# EAGLE library part SFP (library balto)
SFP Cage and Connector
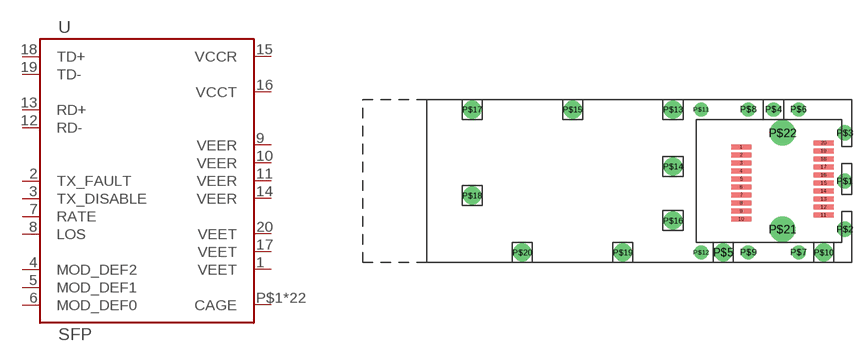
[diagram p38: symbol with the pads of SFP; footprint SFP]

Designator prefix U

## SFP  [SFP]
1  VEET
2  TX_FAULT
3  TX_DISABLE
4  MOD_DEF2
5  MOD_DEF1
6  MOD_DEF0
7  RATE
8  LOS
9  VEER
10  VEER
11  VEER
12  RD-
13  RD+
14  VEER
15  VCCR
16  VCCT
17  VEET
18  TD+
19  TD-
20  VEET
P$1  CAGE
P$2  CAGE
P$3  CAGE
P$4  CAGE
P$5  CAGE
P$6  CAGE
P$7  CAGE
P$8  CAGE
P$9  CAGE
P$10  CAGE
P$11  CAGE
P$12  CAGE
P$13  CAGE
P$14  CAGE
P$15  CAGE
P$16  CAGE
P$17  CAGE
P$18  CAGE
P$19  CAGE
P$20  CAGE
P$21  CAGE
P$22  CAGE

## Footprint SFP (pad centres in mm)
smd 2 x 0.5: 1 31.3,3.4; 2 31.3,2.6; 3 31.3,1.8; 4 31.3,1; 5 31.3,0.2; 6 31.3,-0.6; 7 31.3,-1.4; 8 31.3,-2.2; 9 31.3,-3; 10 31.3,-3.8; 11 39.5,-3.4; 12 39.5,-2.6; 13 39.5,-1.8; 14 39.5,-1; 15 39.5,-0.2; 16 39.5,0.6; 17 39.5,1.4; 18 39.5,2.2; 19 39.5,3; 20 39.5,3.8
drill 1: P$1 41.6,0; P$2 41.6,-4.8; P$3 41.6,4.8
drill 0.9: P$4 34.5,7.13; P$6 37,7.13; P$7 37,-7.12; P$8 32,7.13; P$9 32,-7.12; P$11 27.3,7.13; P$12 27.3,-7.12
drill 1.2: P$5 29.5,-7.12; P$10 39.5,-7.12; P$13 24.5,7.13; P$14 24.5,1.45; P$15 14.5,7.13; P$16 24.5,-3.95; P$17 4.5,7.13; P$18 4.5,-1.45; P$19 19.5,-7.12; P$20 9.5,-7.12
drill 1.7: P$21 35.4,-4.8; P$22 35.4,4.8